# Altium footprint library ATSAMD51J19A-MU.PcbLib: 2 footprints
Each footprint in its own frame and in the unit in brackets; x right, y up, seen from the top. Pads: shape width x height; smd on the part's side, far side on the other; paste and mask are expansions set on the pad; w line width, h text height; cw(c..) or ccw(c..) is an arc to the next point about the centre after c.
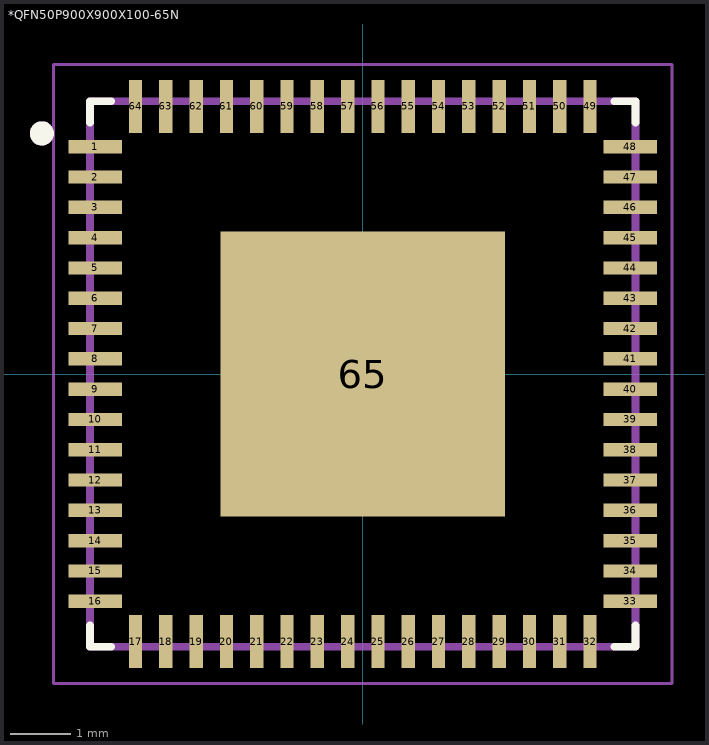
[diagram p0: the footprints below, top view; thin cyan lines are the x and y axes]

## *QFN50P900X900X100-65N [mm]
pads (65):
  rect 0.88x0.22 smd: 1(-4.415,3.75) 2(-4.415,3.25) 3(-4.415,2.75) 4(-4.415,2.25) 5(-4.415,1.75) 6(-4.415,1.25) 7(-4.415,0.75) 8(-4.415,0.25) 9(-4.415,-0.25) 10(-4.415,-0.75) 11(-4.415,-1.25) 12(-4.415,-1.75) 13(-4.415,-2.25) 14(-4.415,-2.75) 15(-4.415,-3.25) 16(-4.415,-3.75) 33(4.415,-3.75) 34(4.415,-3.25) 35(4.415,-2.75) 36(4.415,-2.25) 37(4.415,-1.75) 38(4.415,-1.25) 39(4.415,-0.75) 40(4.415,-0.25) 41(4.415,0.25) 42(4.415,0.75) 43(4.415,1.25) 44(4.415,1.75) 45(4.415,2.25) 46(4.415,2.75) 47(4.415,3.25) 48(4.415,3.75)
  rect 0.22x0.88 smd: 17(-3.75,-4.415) 18(-3.25,-4.415) 19(-2.75,-4.415) 20(-2.25,-4.415) 21(-1.75,-4.415) 22(-1.25,-4.415) 23(-0.75,-4.415) 24(-0.25,-4.415) 25(0.25,-4.415) 26(0.75,-4.415) 27(1.25,-4.415) 28(1.75,-4.415) 29(2.25,-4.415) 30(2.75,-4.415) 31(3.25,-4.415) 32(3.75,-4.415) 49(3.75,4.415) 50(3.25,4.415) 51(2.75,4.415) 52(2.25,4.415) 53(1.75,4.415) 54(1.25,4.415) 55(0.75,4.415) 56(0.25,4.415) 57(-0.25,4.415) 58(-0.75,4.415) 59(-1.25,4.415) 60(-1.75,4.415) 61(-2.25,4.415) 62(-2.75,4.415) 63(-3.25,4.415) 64(-3.75,4.415)
  rect 4.7x4.7 smd: 65(0,0)
Top Overlay:
  circle w0.2: c-5.295,3.97 r0.1
  lines w0.127: -4.5,-4.15 -4.5,-4.5 -4.15,-4.5 ; -4.5,4.15 -4.5,4.5 -4.15,4.5 ; 4.15,-4.5 4.5,-4.5 4.5,-4.15 ; 4.15,4.5 4.5,4.5 4.5,4.15
Top Paste:
  region: 0.346,-0.345 2.005,-0.345 2.005,-2.008 0.346,-2.008
  region: -2.006,-0.345 -0.345,-0.345 -0.345,-2.006 -2.006,-2.006
  region: 0.345,2.005 2.005,2.005 2.005,0.345 0.345,0.345
  region: -2.008,2.005 -0.345,2.005 -0.345,0.346 -2.008,0.346
Mechanical 4:
  circle w0.2: c-5.295,3.97 r0.1
  circle w0.2: c-5.295,3.97 r0.1
  lines w0.127: -4.5,-4.5 -4.5,4.5 ; -4.5,-4.5 4.5,-4.5 ; -4.5,-4.5 -4.5,4.5 ; -4.5,-4.5 4.5,-4.5 ; -4.5,4.5 4.5,4.5 ; -4.5,4.5 4.5,4.5 ; 4.5,-4.5 4.5,4.5 ; 4.5,-4.5 4.5,4.5
Mechanical 16:
  lines w0.05: -5.105,-5.105 -5.105,5.105 5.105,5.105 5.105,-5.105 -5.105,-5.105

## PCBComponent_1 [mm]